# Altium schematic symbol library PitComm.SchLib: 1 symbol
Pins are listed as number, name and electrical type; pins without a type are passive.

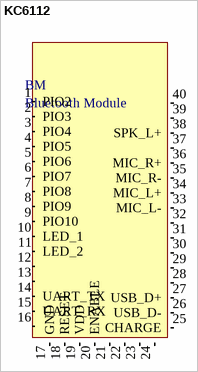
[diagram p0: symbol KC6112]

## KC6112
designator BM, comment Bluetooth Module
pins: 1 PIO2 (in), 2 PIO3 (in), 3 PIO4 (in), 4 PIO5 (in), 5 PIO6 (in), 6 PIO7 (in), 7 PIO8 (in), 8 PIO9 (in), 9 PIO10 (in), 10 LED_1 (in), 11 LED_2 (in), 12 (in), 13 (in), 14 UART_TX (in), 15 UART_RX (in), 16 (in), 17 GND (in), 18 RESET (in), 19 VDD (in), 20 ENABLE (in), 21 (in), 22 (in), 23 (in), 24 (in), 25 CHARGE (in), 26 USB_D- (in), 27 USB_D+ (in), 28 (in), 29 (in), 30 (in), 31 (in), 32 (in), 33 MIC_L- (in), 34 MIC_L+ (in), 35 MIC_R- (in), 36 MIC_R+ (in), 37 (in), 38 SPK_L+ (in), 39 (in), 40 (in)